# EAGLE library part NAVMANJUPITERTU60 (library navman)
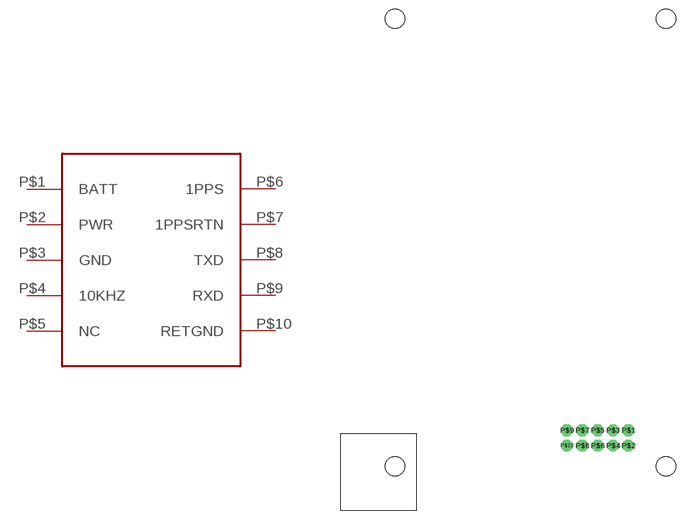
[diagram p0: symbol with the pads of TU60-D001; footprint TU60-D001]

Designator prefix -

## NAVMANJUPITERTU60  [TU60-D001]
P$1  BATT  pwr
P$2  PWR  pwr
P$3  GND  pwr
P$4  10KHZ  out
P$5  NC  nc
P$6  1PPS  out
P$7  1PPSRTN  in
P$8  TXD  out
P$9  RXD  in
P$10  RETGND  pwr

## Footprint TU60-D001 (pad centres in mm)
drill 1.1 pad 1.93 octagon: P$1 42.57,9.44; P$2 42.57,6.9; P$3 40.03,9.44; P$4 40.03,6.9; P$5 37.49,9.44; P$6 37.49,6.9; P$7 34.95,9.44; P$8 34.95,6.9; P$9 32.41,9.44; P$10 32.41,6.9
hole 3.2 at 4,3.5
hole 3.2 at 48.8,3.5
hole 3.2 at 48.8,77.55
hole 3.2 at 4,77.55